# EAGLE library part KF141R-9PIN (library diy_connector)
Serie 236, Klemmenleiste für Leiterplatten 2 Lötstifte/Pol / Series 236, PCB terminal strip 2 solder pins/pole Polzahl / Pole No.: 3 Rastermaß / Pitch: 5.08 mm Bemessungsspannung / Rated Voltage: 320 V Nennstrom / Nominal Current: 24 A Leiterquerschnitt / Conductor Size: 0.08 - 2.5 mm² Anschlusstechnik / Connection Technology: CAGE CLAMP® Lötstiftlänge: / Solder Pin Length: 4 mm Leitereinführung (zur Platine) / Conductor entry angle (to PCB): 45 ° Farbe / Color: grau / gray Stand: 01.01.2012. Die jeweils aktuellen Daten zu diesem Artikel finden Sie in unserem Produktkatalog, den Sie unter www.wago.com einsehen können. As of: 01/01/2012. Please find the newest data for this article in our product catalogue, which can be viewed under www.wago.com.
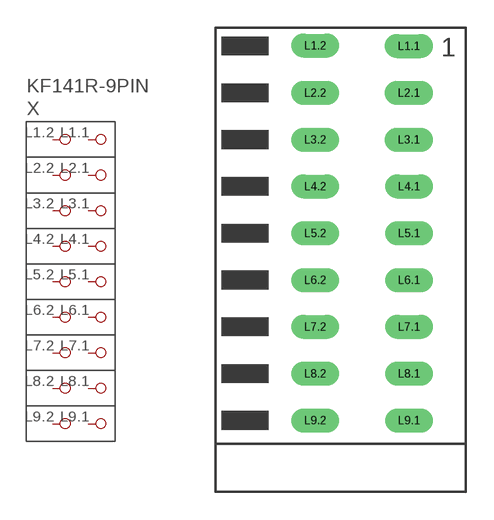
[diagram p0: symbol with the pads of KF141R-9PIN; footprint KF141R-9PIN]

Designator prefix X

## KF141R-9PIN  [KF141R-9PIN]
L1.1  P1.1
L1.2  P1.2
L2.1  P2.1
L2.2  P2.2
L3.1  P3.1
L3.2  P3.2
L4.1  P4.1
L4.2  P4.2
L5.1  P5.1
L5.2  P5.2
L6.1  P6.1
L6.2  P6.2
L7.1  P7.1
L7.2  P7.2
L8.1  P8.1
L8.2  P8.2
L9.1  P9.1
L9.2  P9.2

## Footprint KF141R-9PIN (pad centres in mm)
drill 0.8 long: L1.1 0,0; L1.2 -5.08,0.024; L2.1 0,-2.54; L2.2 -5.08,-2.54; L3.1 0,-5.08; L3.2 -5.08,-5.08; L4.1 0.009,-7.62; L4.2 -5.08,-7.62; L5.1 0.009,-10.16; L5.2 -5.08,-10.16; L6.1 0.009,-12.7; L6.2 -5.08,-12.7; L7.1 0.009,-15.24; L7.2 -5.08,-15.24; L8.1 0.009,-17.78; L8.2 -5.08,-17.78; L9.1 0.009,-20.32; L9.2 -5.08,-20.32